# Altium schematic symbol library S-1318D28-A4T2U4.SchLib: 2 symbols
Pins are listed as number, name and electrical type; pins without a type are passive.

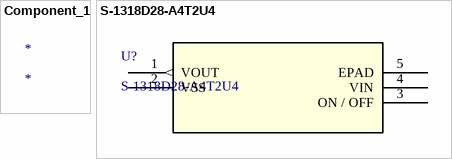
[diagram p0: symbols Component_1 to S-1318D28-A4T2U4]

## Component_1
designator *

## S-1318D28-A4T2U4
designator U?
No Description Available; Mfr_Name: ABLIC; Copyright: Copyright (C) 2022 Ultra Librarian. All rights reserved.; Manufacturer_Part_Number: S-1318D28-A4T2U4; Digi-Key_Part_Number_1: 1662-S-1318D28-A4T2U4TR-ND; Digi-Key_Part_Number_2: 1662-S-1318D28-A4T2U4CT-ND; Digi-Key_Part_Number_3: 1662-S-1318D28-A4T2U4DKR-ND; RefDes: RefDes; Type: DEV
footprint SMD04_HSNT_1X1_ABL
pins: 1 VOUT (out), 2 VSS, 3 ON / OFF, 4 VIN, 5 EPAD